# Altium footprint library CONN_Shift.PcbLib: 1 footprints
Each footprint in its own frame and in the unit in brackets; x right, y up, seen from the top. Pads: shape width x height; smd on the part's side, far side on the other; paste and mask are expansions set on the pad; w line width, h text height; cw(c..) or ccw(c..) is an arc to the next point about the centre after c.
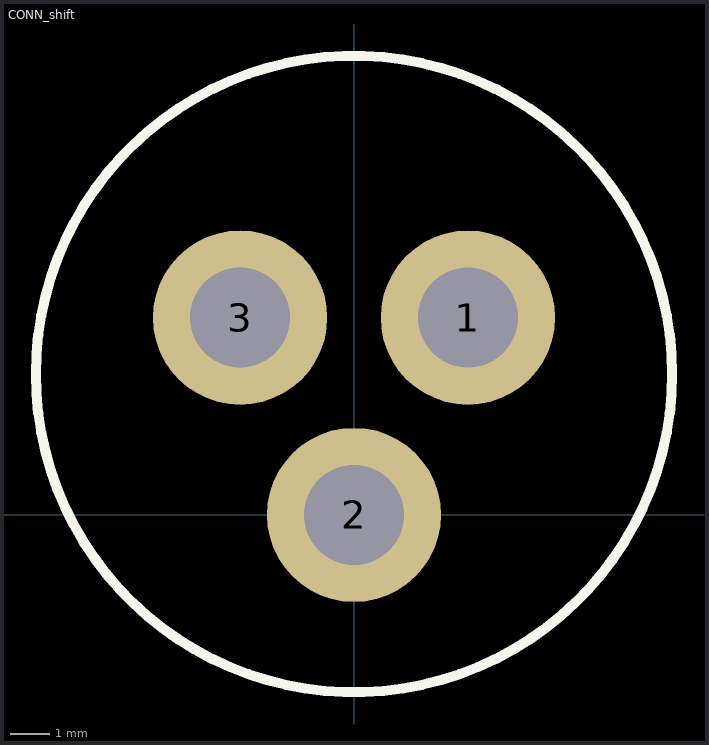
[diagram p0: the footprint, top view; thin cyan lines are the x and y axes]

## CONN_shift [mm]
height 15.545
pads (3):
  round 4.4 hole 2.53: 1(2.875,4.98) 2(0,0) 3(-2.875,4.98)
Top Overlay:
  circle w0.254: c0,3.556 r8.026
3D body: height 15.56, standoff 0, extent -8,-4.444 8,11.556
3D body: height 0.25, standoff 0, extent 14.402,8.026 14.402,8.026
3D body: height 6.89, standoff 4.5, extent -10.66,-7.104 10.66,14.216
3D body: height 0.25, standoff 0, extent 0,2.489 0,2.489